# Altium integrated library ST Logic Counter.IntLib: 206 symbols (part 3 of 3)
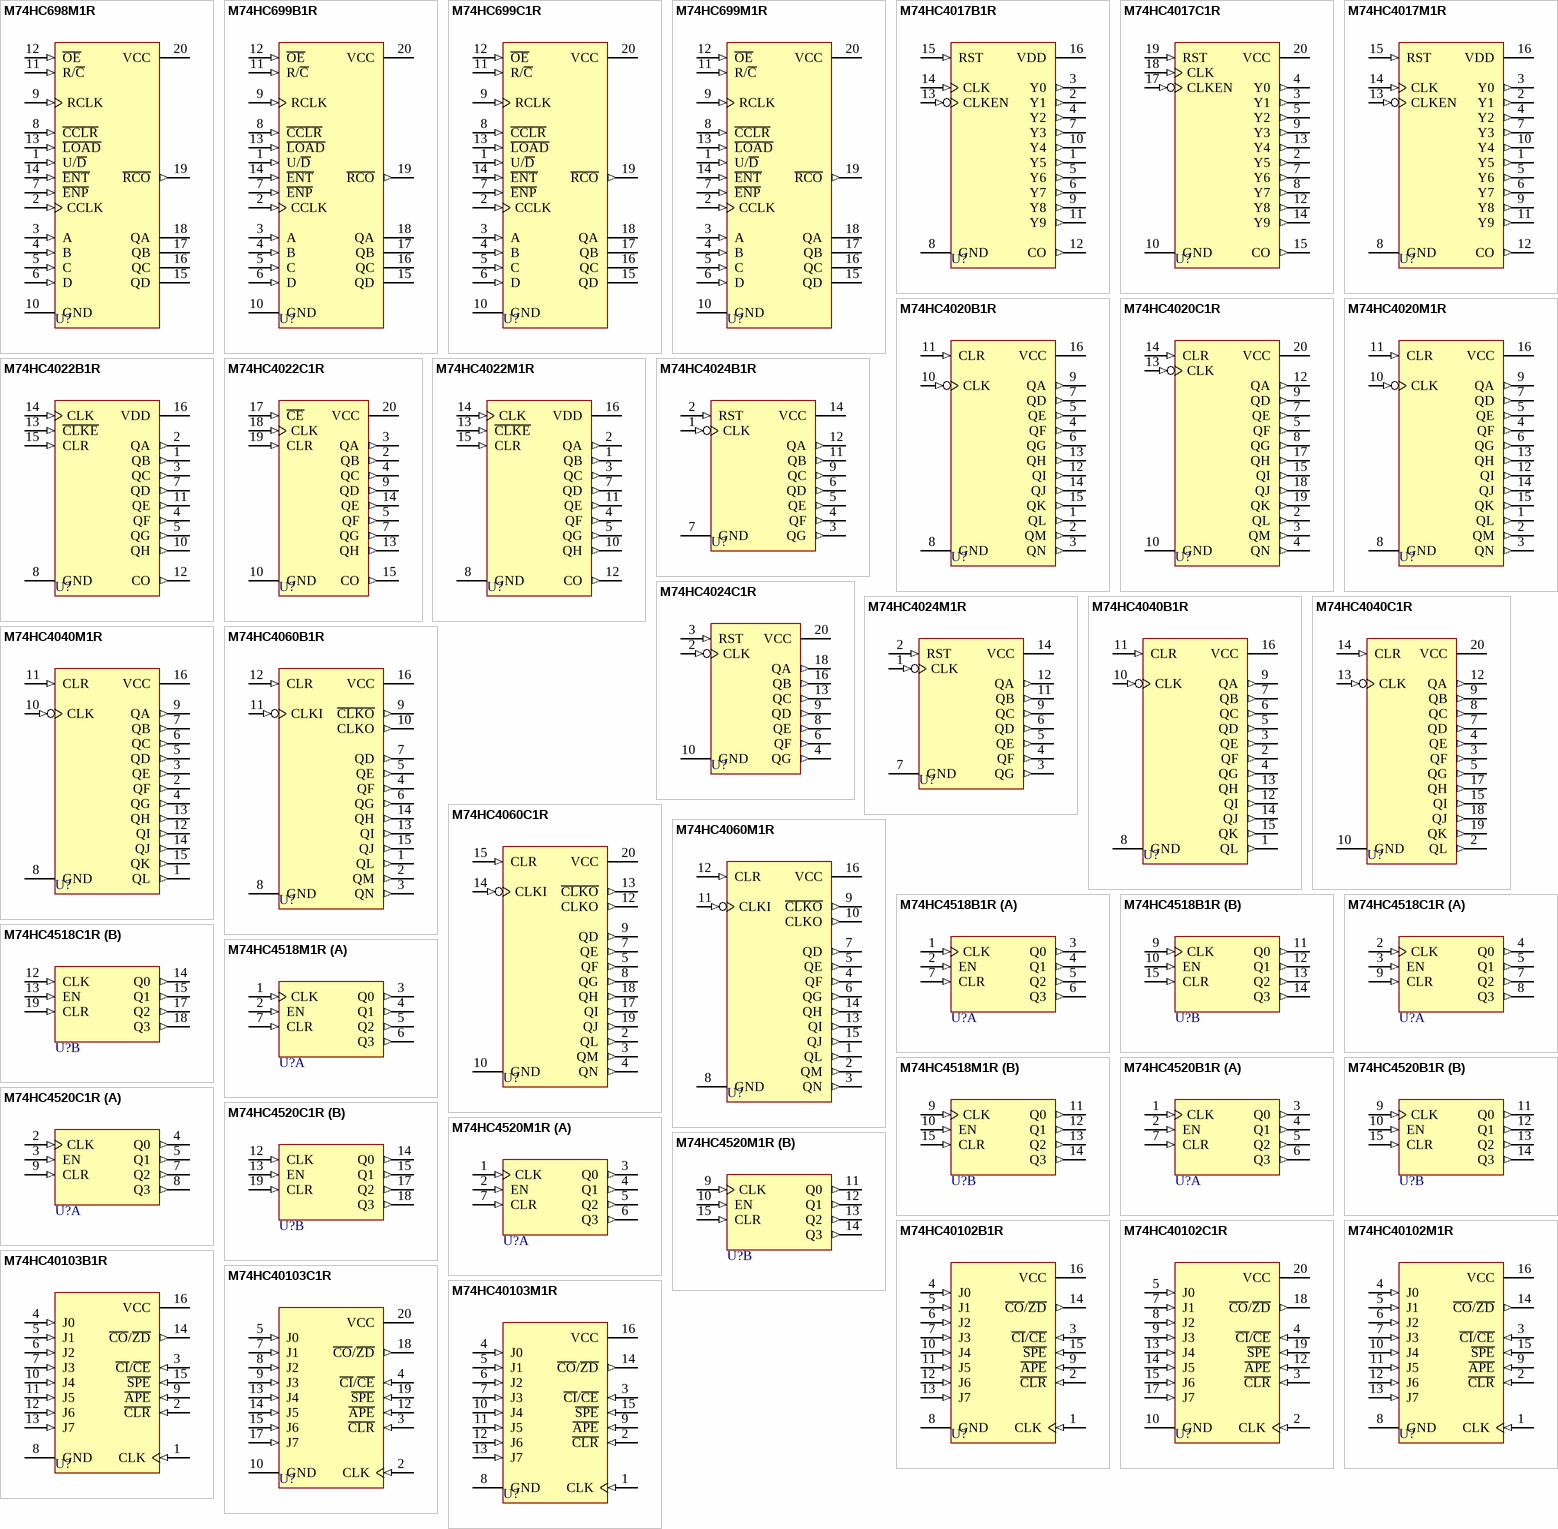
[diagram p8: symbols M74HC698M1R to M74HC40103M1R]

## M74HC699C1R
designator U?
U/D 4-Bit Binary Counter/Register (3-State); Published: 8-Jun-2000; LatestRevisionDate: 17-Jul-2002; LatestRevisionNote: Re-released for DXP Platform.; DatasheetDocument: Mar-1993; PackageDocument: Mar-1992; PackageReference: PLCC20; Publisher: Altium Limited
footprint PLCC20 (Leaded Chip Carrier; 20 Leads; Body 9 x 9 mm)
signal-integrity model M74HC699C1R
pins: 1 U/~{D} (in), 2 CCLK (in), 3 A (in), 4 B (in), 5 C (in), 6 D (in), 7 ~{ENP} (in), 8 ~{CCLR} (in), 9 RCLK (in), 10 GND (power), 11 R/~{C} (in), 12 ~{OE} (in), 13 ~{LOAD} (in), 14 ~{ENT} (in), 15 QD (hiz), 16 QC (hiz), 17 QB (hiz), 18 QA (hiz), 19 ~{RCO} (out), 20 VCC (power)

## M74HC699M1R
designator U?
U/D 4-Bit Binary Counter/Register (3-State); Published: 8-Jun-2000; LatestRevisionDate: 17-Jul-2002; LatestRevisionNote: Re-released for DXP Platform.; DatasheetDocument: Mar-1993; PackageDocument: Jul-2001; PackageReference: SO20; Publisher: Altium Limited; Code_JEDEC: MS-013-AC; Code_IPC: SO20W
footprint SO20 (Small Outline, Plastic; 20 Leads; Body Width 7.5 mm; Pitch 1.27 mm)
signal-integrity model M74HC699M1R
pins: 1 U/~{D} (in), 2 CCLK (in), 3 A (in), 4 B (in), 5 C (in), 6 D (in), 7 ~{ENP} (in), 8 ~{CCLR} (in), 9 RCLK (in), 10 GND (power), 11 R/~{C} (in), 12 ~{OE} (in), 13 ~{LOAD} (in), 14 ~{ENT} (in), 15 QD (hiz), 16 QC (hiz), 17 QB (hiz), 18 QA (hiz), 19 ~{RCO} (out), 20 VCC (power)

## M74HC4017B1R
designator U?
Decade Counter/Divider; Published: 8-Jun-2000; LatestRevisionDate: 17-Jul-2002; LatestRevisionNote: Re-released for DXP Platform.; DatasheetDocument: Oct-1992; PackageDocument: Apr-1996; PackageReference: DIP16; Publisher: Altium Limited
footprint DIP16 (DIP; 16 Leads; Row Spacing 7.62 mm; Pitch 2.54 mm)
signal-integrity model M74HC4017B1R
pins: 1 Y5 (out), 2 Y1 (out), 3 Y0 (out), 4 Y2 (out), 5 Y6 (out), 6 Y7 (out), 7 Y3 (out), 8 GND (power), 9 Y8 (out), 10 Y4 (out), 11 Y9 (out), 12 CO (out), 13 CLKEN (in), 14 CLK (in), 15 RST (in), 16 VDD (power)

## M74HC4017C1R
designator U?
Decade Counter/Divider; Note: Pins 1, 6, 11 and 16 are not connected and not drawn.; Published: 8-Jun-2000; LatestRevisionDate: 17-Jul-2002; LatestRevisionNote: Re-released for DXP Platform.; DatasheetDocument: Oct-1992; PackageDocument: Mar-1992; PackageReference: PLCC20; Publisher: Altium Limited
footprint PLCC20 (Leaded Chip Carrier; 20 Leads; Body 9 x 9 mm)
signal-integrity model M74HC4017C1R
pins: 2 Y5 (out), 3 Y1 (out), 4 Y0 (out), 5 Y2 (out), 7 Y6 (out), 8 Y7 (out), 9 Y3 (out), 10 GND (power), 12 Y8 (out), 13 Y4 (out), 14 Y9 (out), 15 CO (out), 17 CLKEN (in), 18 CLK (in), 19 RST (in), 20 VCC (power)

## M74HC4017M1R
designator U?
Decade Counter/Divider; Published: 8-Jun-2000; LatestRevisionDate: 17-Jul-2002; LatestRevisionNote: Re-released for DXP Platform.; DatasheetDocument: Oct-1992; PackageDocument: May-1998; PackageReference: SO16; Publisher: Altium Limited
footprint SO16 (Small Outline; 16 Leads; Body Width 3.9 mm; Pitch 1.27 mm)
signal-integrity model M74HC4017M1R
pins: 1 Y5 (out), 2 Y1 (out), 3 Y0 (out), 4 Y2 (out), 5 Y6 (out), 6 Y7 (out), 7 Y3 (out), 8 GND (power), 9 Y8 (out), 10 Y4 (out), 11 Y9 (out), 12 CO (out), 13 CLKEN (in), 14 CLK (in), 15 RST (in), 16 VDD (power)

## M74HC4020B1R
designator U?
14-Stage Binary Counter; Published: 8-Jun-2000; LatestRevisionDate: 17-Jul-2002; LatestRevisionNote: Re-released for DXP Platform.; DatasheetDocument: Mar-1993; PackageDocument: Apr-1996; PackageReference: DIP16; Publisher: Altium Limited
footprint DIP16 (DIP; 16 Leads; Row Spacing 7.62 mm; Pitch 2.54 mm)
signal-integrity model M74HC4020B1R
pins: 1 QL (out), 2 QM (out), 3 QN (out), 4 QF (out), 5 QE (out), 6 QG (out), 7 QD (out), 8 GND (power), 9 QA (out), 10 CLK (in), 11 CLR (in), 12 QI (out), 13 QH (out), 14 QJ (out), 15 QK (out), 16 VCC (power)

## M74HC4020C1R
designator U?
14-Stage Binary Counter; Note: Pins 1, 6, 11 and 16 are not connected and not drawn.; Published: 8-Jun-2000; LatestRevisionDate: 17-Jul-2002; LatestRevisionNote: Re-released for DXP Platform.; DatasheetDocument: Mar-1993; PackageDocument: Mar-1992; PackageReference: PLCC20; Publisher: Altium Limited
footprint PLCC20 (Leaded Chip Carrier; 20 Leads; Body 9 x 9 mm)
signal-integrity model M74HC4020C1R
pins: 2 QL (out), 3 QM (out), 4 QN (out), 5 QF (out), 7 QE (out), 8 QG (out), 9 QD (out), 10 GND (power), 12 QA (out), 13 CLK (in), 14 CLR (in), 15 QI (out), 17 QH (out), 18 QJ (out), 19 QK (out), 20 VCC (power)

## M74HC4020M1R
designator U?
14-Stage Binary Counter; Published: 8-Jun-2000; LatestRevisionDate: 17-Jul-2002; LatestRevisionNote: Re-released for DXP Platform.; DatasheetDocument: Mar-1993; PackageDocument: May-1998; PackageReference: SO16; Publisher: Altium Limited
footprint SO16 (Small Outline; 16 Leads; Body Width 3.9 mm; Pitch 1.27 mm)
signal-integrity model M74HC4020M1R
pins: 1 QL (out), 2 QM (out), 3 QN (out), 4 QF (out), 5 QE (out), 6 QG (out), 7 QD (out), 8 GND (power), 9 QA (out), 10 CLK (in), 11 CLR (in), 12 QI (out), 13 QH (out), 14 QJ (out), 15 QK (out), 16 VCC (power)

## M74HC4022B1R
designator U?
Octal Counter/Divider; Note: Pins 6 and 9 are not connected and not drawn.; Published: 8-Jun-2000; LatestRevisionDate: 17-Jul-2002; LatestRevisionNote: Re-released for DXP Platform.; DatasheetDocument: Oct-1992; PackageDocument: Apr-1996; PackageReference: DIP16; Publisher: Altium Limited
footprint DIP16 (DIP; 16 Leads; Row Spacing 7.62 mm; Pitch 2.54 mm)
signal-integrity model M74HC4022B1R
pins: 1 QB (out), 2 QA (out), 3 QC (out), 4 QF (out), 5 QG (out), 7 QD (out), 8 GND (power), 10 QH (out), 11 QE (out), 12 CO (out), 13 ~{CLKE} (in), 14 CLK (in), 15 CLR (in), 16 VDD (power)

## M74HC4022C1R
designator U?
Octal Counter/Divider; Note: Pins 1, 6, 8, 11, 12 and 16 are not connected and not drawn.; Published: 8-Jun-2000; LatestRevisionDate: 17-Jul-2002; LatestRevisionNote: Re-released for DXP Platform.; DatasheetDocument: Oct-1992; PackageDocument: Mar-1992; PackageReference: PLCC20; Publisher: Altium Limited
footprint PLCC20 (Leaded Chip Carrier; 20 Leads; Body 9 x 9 mm)
signal-integrity model M74HC4022C1R
pins: 2 QB (out), 3 QA (out), 4 QC (out), 5 QF (out), 7 QG (out), 9 QD (out), 10 GND (power), 13 QH (out), 14 QE (out), 15 CO (out), 17 ~{CE} (in), 18 CLK (in), 19 CLR (in), 20 VCC (power)

## M74HC4022M1R
designator U?
Octal Counter/Divider; Note: Pins 6 and 9 are not connected and not drawn.; Published: 8-Jun-2000; LatestRevisionDate: 17-Jul-2002; LatestRevisionNote: Re-released for DXP Platform.; DatasheetDocument: Oct-1992; PackageDocument: May-1998; PackageReference: SO16; Publisher: Altium Limited
footprint SO16 (Small Outline; 16 Leads; Body Width 3.9 mm; Pitch 1.27 mm)
signal-integrity model M74HC4022M1R
pins: 1 QB (out), 2 QA (out), 3 QC (out), 4 QF (out), 5 QG (out), 7 QD (out), 8 GND (power), 10 QH (out), 11 QE (out), 12 CO (out), 13 ~{CLKE} (in), 14 CLK (in), 15 CLR (in), 16 VDD (power)

## M74HC4024B1R
designator U?
7-Stage Binary Counter; Note: Pins 8, 10 and 13 are not connected and not drawn.; Published: 8-Jun-2000; LatestRevisionDate: 17-Jul-2002; LatestRevisionNote: Re-released for DXP Platform.; DatasheetDocument: Oct-1992; PackageDocument: Jan-1997; PackageReference: DIP14; Publisher: Altium Limited
footprint DIP14 (DIP; 14 Leads; Row Spacing 7.62 mm; Pitch 2.54 mm)
signal-integrity model M74HC4024B1R
pins: 1 CLK (in), 2 RST (in), 3 QG (out), 4 QF (out), 5 QE (out), 6 QD (out), 7 GND (power), 9 QC (out), 11 QB (out), 12 QA (out), 14 VCC (power)

## M74HC4024C1R
designator U?
7-Stage Binary Counter; Note: Pins 1, 5, 7, 11, 12, 14, 15, 17 and 19 are not connected and not drawn.; Published: 8-Jun-2000; LatestRevisionDate: 17-Jul-2002; LatestRevisionNote: Re-released for DXP Platform.; DatasheetDocument: Oct-1992; PackageDocument: Mar-1992; PackageReference: PLCC20; Publisher: Altium Limited
footprint PLCC20 (Leaded Chip Carrier; 20 Leads; Body 9 x 9 mm)
signal-integrity model M74HC4024C1R
pins: 2 CLK (in), 3 RST (in), 4 QG (out), 6 QF (out), 8 QE (out), 9 QD (out), 10 GND (power), 13 QC (out), 16 QB (out), 18 QA (out), 20 VCC (power)

## M74HC4024M1R
designator U?
7-Stage Binary Counter; Note: Pins 8, 10 and 13 are not connected and not drawn.; Published: 8-Jun-2000; LatestRevisionDate: 17-Jul-2002; LatestRevisionNote: Re-released for DXP Platform.; DatasheetDocument: Oct-1992; PackageDocument: Sep-1998; PackageReference: SO14; Publisher: Altium Limited
footprint SO14 (Small Outline; 14 Leads; Body Width 3.9 mm; Pitch 1.27 mm)
signal-integrity model M74HC4024M1R
pins: 1 CLK (in), 2 RST (in), 3 QG (out), 4 QF (out), 5 QE (out), 6 QD (out), 7 GND (power), 9 QC (out), 11 QB (out), 12 QA (out), 14 VCC (power)

## M74HC4040B1R
designator U?
12-Stage Binary Counter; Published: 8-Jun-2000; LatestRevisionDate: 17-Jul-2002; LatestRevisionNote: Re-released for DXP Platform.; DatasheetDocument: Mar-1993; PackageDocument: Apr-1996; PackageReference: DIP16; Publisher: Altium Limited
footprint DIP16 (DIP; 16 Leads; Row Spacing 7.62 mm; Pitch 2.54 mm)
signal-integrity model M74HC4040B1R
pins: 1 QL (out), 2 QF (out), 3 QE (out), 4 QG (out), 5 QD (out), 6 QC (out), 7 QB (out), 8 GND (power), 9 QA (out), 10 CLK (in), 11 CLR (in), 12 QI (out), 13 QH (out), 14 QJ (out), 15 QK (out), 16 VCC (power)

## M74HC4040C1R
designator U?
12-Stage Binary Counter; Note: Pins 1, 6, 11 and 16 are not connected and not drawn.; Published: 8-Jun-2000; LatestRevisionDate: 17-Jul-2002; LatestRevisionNote: Re-released for DXP Platform.; DatasheetDocument: Mar-1993; PackageDocument: Mar-1992; PackageReference: PLCC20; Publisher: Altium Limited
footprint PLCC20 (Leaded Chip Carrier; 20 Leads; Body 9 x 9 mm)
signal-integrity model M74HC4040C1R
pins: 2 QL (out), 3 QF (out), 4 QE (out), 5 QG (out), 7 QD (out), 8 QC (out), 9 QB (out), 10 GND (power), 12 QA (out), 13 CLK (in), 14 CLR (in), 15 QI (out), 17 QH (out), 18 QJ (out), 19 QK (out), 20 VCC (power)

## M74HC4040M1R
designator U?
12-Stage Binary Counter; Published: 8-Jun-2000; LatestRevisionDate: 17-Jul-2002; LatestRevisionNote: Re-released for DXP Platform.; DatasheetDocument: Mar-1993; PackageDocument: May-1998; PackageReference: SO16; Publisher: Altium Limited
footprint SO16 (Small Outline; 16 Leads; Body Width 3.9 mm; Pitch 1.27 mm)
signal-integrity model M74HC4040M1R
pins: 1 QL (out), 2 QF (out), 3 QE (out), 4 QG (out), 5 QD (out), 6 QC (out), 7 QB (out), 8 GND (power), 9 QA (out), 10 CLK (in), 11 CLR (in), 12 QI (out), 13 QH (out), 14 QJ (out), 15 QK (out), 16 VCC (power)

## M74HC4060B1R
designator U?
14-Stage Binary Counter/Oscillator; Published: 8-Jun-2000; LatestRevisionDate: 17-Jul-2002; LatestRevisionNote: Re-released for DXP Platform.; DatasheetDocument: Mar-1993; PackageDocument: Apr-1996; PackageReference: DIP16; Publisher: Altium Limited
footprint DIP16 (DIP; 16 Leads; Row Spacing 7.62 mm; Pitch 2.54 mm)
signal-integrity model M74HC4060B1R
pins: 1 QL (out), 2 QM (out), 3 QN (out), 4 QF (out), 5 QE (out), 6 QG (out), 7 QD (out), 8 GND (power), 9 ~{CLKO} (out), 10 CLKO (out), 11 CLKI (in), 12 CLR (in), 13 QI (out), 14 QH (out), 15 QJ (out), 16 VCC (power)

## M74HC4060C1R
designator U?
14-Stage Binary Counter/Oscillator; Note: Pins 1, 6, 11 and 16 are not connected and not drawn.; Published: 8-Jun-2000; LatestRevisionDate: 17-Jul-2002; LatestRevisionNote: Re-released for DXP Platform.; DatasheetDocument: Mar-1993; PackageDocument: Mar-1992; PackageReference: PLCC20; Publisher: Altium Limited
footprint PLCC20 (Leaded Chip Carrier; 20 Leads; Body 9 x 9 mm)
signal-integrity model M74HC4060C1R
pins: 2 QL (out), 3 QM (out), 4 QN (out), 5 QF (out), 7 QE (out), 8 QG (out), 9 QD (out), 10 GND (power), 12 CLKO (out), 13 ~{CLKO} (out), 14 CLKI (in), 15 CLR (in), 17 QI (out), 18 QH (out), 19 QJ (out), 20 VCC (power)

## M74HC4060M1R
designator U?
14-Stage Binary Counter/Oscillator; Published: 8-Jun-2000; LatestRevisionDate: 17-Jul-2002; LatestRevisionNote: Re-released for DXP Platform.; DatasheetDocument: Mar-1993; PackageDocument: May-1998; PackageReference: SO16; Publisher: Altium Limited
footprint SO16 (Small Outline; 16 Leads; Body Width 3.9 mm; Pitch 1.27 mm)
signal-integrity model M74HC4060M1R
pins: 1 QL (out), 2 QM (out), 3 QN (out), 4 QF (out), 5 QE (out), 6 QG (out), 7 QD (out), 8 GND (power), 9 ~{CLKO} (out), 10 CLKO (out), 11 CLKI (in), 12 CLR (in), 13 QI (out), 14 QH (out), 15 QJ (out), 16 VCC (power)

## M74HC4518B1R
designator U?
Dual Decade Counter; Published: 8-Jun-2000; LatestRevisionDate: 17-Jul-2002; LatestRevisionNote: Re-released for DXP Platform.; DatasheetDocument: Mar-1993; PackageDocument: Apr-1996; PackageReference: DIP16; Publisher: Altium Limited
footprint DIP16 (DIP; 16 Leads; Row Spacing 7.62 mm; Pitch 2.54 mm)
signal-integrity model M74HC4518B1R
pins on every part: 8 GND (power) hidden to GND, 16 VDD (power) hidden to VDD
part A pins: 1 CLK (in), 2 EN (in), 3 Q0 (out), 4 Q1 (out), 5 Q2 (out), 6 Q3 (out), 7 CLR (in)
part B pins: 9 CLK (in), 10 EN (in), 11 Q0 (out), 12 Q1 (out), 13 Q2 (out), 14 Q3 (out), 15 CLR (in)

## M74HC4518C1R
designator U?
Dual Decade Counter; Note: Pins 1, 6, 11 and 16 are not connected and not drawn.; Published: 8-Jun-2000; LatestRevisionDate: 17-Jul-2002; LatestRevisionNote: Re-released for DXP Platform.; DatasheetDocument: Mar-1993; PackageDocument: Mar-1992; PackageReference: PLCC20; Publisher: Altium Limited
footprint PLCC20 (Leaded Chip Carrier; 20 Leads; Body 9 x 9 mm)
signal-integrity model M74HC4518C1R
pins on every part: 10 GND (power) hidden to GND, 20 VCC (power) hidden to VCC
part A pins: 2 CLK (in), 3 EN (in), 4 Q0 (out), 5 Q1 (out), 7 Q2 (out), 8 Q3 (out), 9 CLR (in)
part B pins: 12 CLK (in), 13 EN (in), 14 Q0 (out), 15 Q1 (out), 17 Q2 (out), 18 Q3 (out), 19 CLR (in)

## M74HC4518M1R
designator U?
Dual Decade Counter; Published: 8-Jun-2000; LatestRevisionDate: 17-Jul-2002; LatestRevisionNote: Re-released for DXP Platform.; DatasheetDocument: Mar-1993; PackageDocument: May-1998; PackageReference: SO16; Publisher: Altium Limited
footprint SO16 (Small Outline; 16 Leads; Body Width 3.9 mm; Pitch 1.27 mm)
signal-integrity model M74HC4518M1R
pins on every part: 8 GND (power) hidden to GND, 16 VDD (power) hidden to VDD
part A pins: 1 CLK (in), 2 EN (in), 3 Q0 (out), 4 Q1 (out), 5 Q2 (out), 6 Q3 (out), 7 CLR (in)
part B pins: 9 CLK (in), 10 EN (in), 11 Q0 (out), 12 Q1 (out), 13 Q2 (out), 14 Q3 (out), 15 CLR (in)

## M74HC4520B1R
designator U?
Dual 4 Bit Binary Counter; Published: 8-Jun-2000; LatestRevisionDate: 17-Jul-2002; LatestRevisionNote: Re-released for DXP Platform.; DatasheetDocument: Mar-1993; PackageDocument: Apr-1996; PackageReference: DIP16; Publisher: Altium Limited
footprint DIP16 (DIP; 16 Leads; Row Spacing 7.62 mm; Pitch 2.54 mm)
signal-integrity model M74HC4520B1R
pins on every part: 8 GND (power) hidden to GND, 16 VDD (power) hidden to VDD
part A pins: 1 CLK (in), 2 EN (in), 3 Q0 (out), 4 Q1 (out), 5 Q2 (out), 6 Q3 (out), 7 CLR (in)
part B pins: 9 CLK (in), 10 EN (in), 11 Q0 (out), 12 Q1 (out), 13 Q2 (out), 14 Q3 (out), 15 CLR (in)

## M74HC4520C1R
designator U?
Dual 4 Bit Binary Counter; Note: Pins 1, 6, 11 and 16 are not connected and not drawn.; Published: 8-Jun-2000; LatestRevisionDate: 17-Jul-2002; LatestRevisionNote: Re-released for DXP Platform.; DatasheetDocument: Mar-1993; PackageDocument: Mar-1992; PackageReference: PLCC20; Publisher: Altium Limited
footprint PLCC20 (Leaded Chip Carrier; 20 Leads; Body 9 x 9 mm)
signal-integrity model M74HC4520C1R
pins on every part: 10 GND (power) hidden to GND, 20 VCC (power) hidden to VCC
part A pins: 2 CLK (in), 3 EN (in), 4 Q0 (out), 5 Q1 (out), 7 Q2 (out), 8 Q3 (out), 9 CLR (in)
part B pins: 12 CLK (in), 13 EN (in), 14 Q0 (out), 15 Q1 (out), 17 Q2 (out), 18 Q3 (out), 19 CLR (in)

## M74HC4520M1R
designator U?
Dual 4 Bit Binary Counter; Published: 8-Jun-2000; LatestRevisionDate: 17-Jul-2002; LatestRevisionNote: Re-released for DXP Platform.; DatasheetDocument: Mar-1993; PackageDocument: May-1998; PackageReference: SO16; Publisher: Altium Limited
footprint SO16 (Small Outline; 16 Leads; Body Width 3.9 mm; Pitch 1.27 mm)
signal-integrity model M74HC4520M1R
pins on every part: 8 GND (power) hidden to GND, 16 VDD (power) hidden to VDD
part A pins: 1 CLK (in), 2 EN (in), 3 Q0 (out), 4 Q1 (out), 5 Q2 (out), 6 Q3 (out), 7 CLR (in)
part B pins: 9 CLK (in), 10 EN (in), 11 Q0 (out), 12 Q1 (out), 13 Q2 (out), 14 Q3 (out), 15 CLR (in)

## M74HC40102B1R
designator U?
8-Stage Presettable Synchronous Down Counter; Published: 8-Jun-2000; LatestRevisionDate: 17-Jul-2002; LatestRevisionNote: Re-released for DXP Platform.; DatasheetDocument: Mar-1993; PackageDocument: Apr-1996; PackageReference: DIP16; Publisher: Altium Limited
footprint DIP16 (DIP; 16 Leads; Row Spacing 7.62 mm; Pitch 2.54 mm)
signal-integrity model M74HC40102B1R
pins: 1 CLK (in), 2 ~{CLR} (in), 3 ~{CI}/~{CE} (in), 4 J0 (in), 5 J1 (in), 6 J2 (in), 7 J3 (in), 8 GND (power), 9 ~{APE} (in), 10 J4 (in), 11 J5 (in), 12 J6 (in), 13 J7 (in), 14 ~{CO}/~{ZD} (out), 15 ~{SPE} (in), 16 VCC (power)

## M74HC40102C1R
designator U?
8-Stage Presettable Synchronous Down Counter; Note: Pins 1, 6, 11 and 16 are not connected and not drawn.; Published: 8-Jun-2000; LatestRevisionDate: 17-Jul-2002; LatestRevisionNote: Re-released for DXP Platform.; DatasheetDocument: Mar-1993; PackageDocument: Mar-1992; PackageReference: PLCC20; Publisher: Altium Limited
footprint PLCC20 (Leaded Chip Carrier; 20 Leads; Body 9 x 9 mm)
signal-integrity model M74HC40102C1R
pins: 2 CLK (in), 3 ~{CLR} (in), 4 ~{CI}/~{CE} (in), 5 J0 (in), 7 J1 (in), 8 J2 (in), 9 J3 (in), 10 GND (power), 12 ~{APE} (in), 13 J4 (in), 14 J5 (in), 15 J6 (in), 17 J7 (in), 18 ~{CO}/~{ZD} (out), 19 ~{SPE} (in), 20 VCC (power)

## M74HC40102M1R
designator U?
8-Stage Presettable Synchronous Down Counter; Published: 8-Jun-2000; LatestRevisionDate: 17-Jul-2002; LatestRevisionNote: Re-released for DXP Platform.; DatasheetDocument: Mar-1993; PackageDocument: May-1998; PackageReference: SO16; Publisher: Altium Limited
footprint SO16 (Small Outline; 16 Leads; Body Width 3.9 mm; Pitch 1.27 mm)
signal-integrity model M74HC40102M1R
pins: 1 CLK (in), 2 ~{CLR} (in), 3 ~{CI}/~{CE} (in), 4 J0 (in), 5 J1 (in), 6 J2 (in), 7 J3 (in), 8 GND (power), 9 ~{APE} (in), 10 J4 (in), 11 J5 (in), 12 J6 (in), 13 J7 (in), 14 ~{CO}/~{ZD} (out), 15 ~{SPE} (in), 16 VCC (power)

## M74HC40103B1R
designator U?
8-Stage Presettable Synchronous Down Counter; Published: 8-Jun-2000; LatestRevisionDate: 17-Jul-2002; LatestRevisionNote: Re-released for DXP Platform.; DatasheetDocument: Mar-1993; PackageDocument: Apr-1996; PackageReference: DIP16; Publisher: Altium Limited
footprint DIP16 (DIP; 16 Leads; Row Spacing 7.62 mm; Pitch 2.54 mm)
signal-integrity model M74HC40103B1R
pins: 1 CLK (in), 2 ~{CLR} (in), 3 ~{CI}/~{CE} (in), 4 J0 (in), 5 J1 (in), 6 J2 (in), 7 J3 (in), 8 GND (power), 9 ~{APE} (in), 10 J4 (in), 11 J5 (in), 12 J6 (in), 13 J7 (in), 14 ~{CO}/~{ZD} (out), 15 ~{SPE} (in), 16 VCC (power)

## M74HC40103C1R
designator U?
8-Stage Presettable Synchronous Down Counter; Note: Pins 1, 6, 11 and 16 are not connected and not drawn.; Published: 8-Jun-2000; LatestRevisionDate: 17-Jul-2002; LatestRevisionNote: Re-released for DXP Platform.; DatasheetDocument: Mar-1993; PackageDocument: Mar-1992; PackageReference: PLCC20; Publisher: Altium Limited
footprint PLCC20 (Leaded Chip Carrier; 20 Leads; Body 9 x 9 mm)
signal-integrity model M74HC40103C1R
pins: 2 CLK (in), 3 ~{CLR} (in), 4 ~{CI}/~{CE} (in), 5 J0 (in), 7 J1 (in), 8 J2 (in), 9 J3 (in), 10 GND (power), 12 ~{APE} (in), 13 J4 (in), 14 J5 (in), 15 J6 (in), 17 J7 (in), 18 ~{CO}/~{ZD} (out), 19 ~{SPE} (in), 20 VCC (power)

## M74HC40103M1R
designator U?
8-Stage Presettable Synchronous Down Counter; Published: 8-Jun-2000; LatestRevisionDate: 17-Jul-2002; LatestRevisionNote: Re-released for DXP Platform.; DatasheetDocument: Mar-1993; PackageDocument: May-1998; PackageReference: SO16; Publisher: Altium Limited
footprint SO16 (Small Outline; 16 Leads; Body Width 3.9 mm; Pitch 1.27 mm)
signal-integrity model M74HC40103M1R
pins: 1 CLK (in), 2 ~{CLR} (in), 3 ~{CI}/~{CE} (in), 4 J0 (in), 5 J1 (in), 6 J2 (in), 7 J3 (in), 8 GND (power), 9 ~{APE} (in), 10 J4 (in), 11 J5 (in), 12 J6 (in), 13 J7 (in), 14 ~{CO}/~{ZD} (out), 15 ~{SPE} (in), 16 VCC (power)

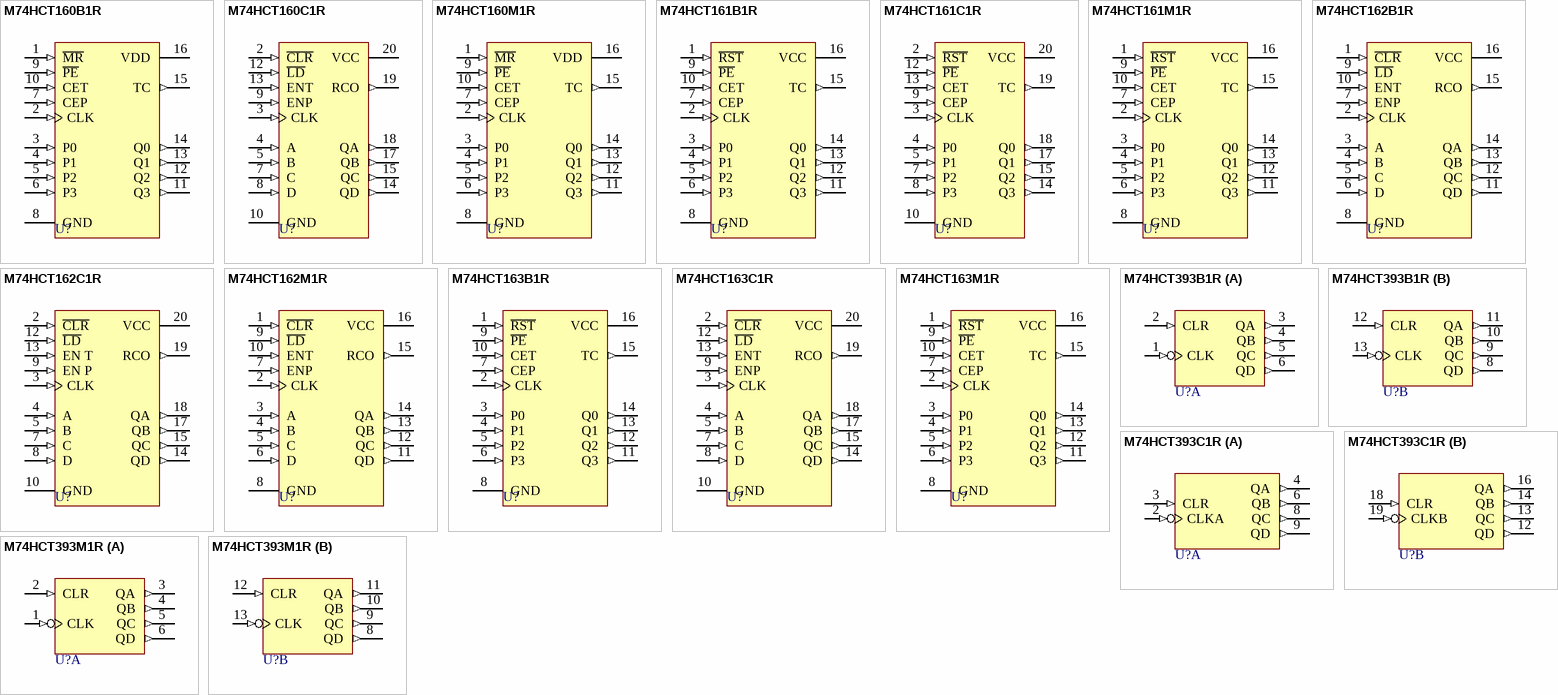
[diagram p6: symbols M74HCT160B1R to M74HCT393M1R]

## M74HCT160B1R
designator U?
Synchronous Presettable 4-Bit Counter; Published: 8-Jun-2000; LatestRevisionDate: 17-Jul-2002; LatestRevisionNote: Re-released for DXP Platform.; DatasheetDocument: Oct-1993; PackageDocument: Apr-1996; PackageReference: DIP16; Publisher: Altium Limited
footprint DIP16 (DIP; 16 Leads; Row Spacing 7.62 mm; Pitch 2.54 mm)
signal-integrity model M74HCT160B1R
pins: 1 ~{MR} (in), 2 CLK (in), 3 P0 (in), 4 P1 (in), 5 P2 (in), 6 P3 (in), 7 CEP (in), 8 GND (power), 9 ~{PE} (in), 10 CET (in), 11 Q3 (out), 12 Q2 (out), 13 Q1 (out), 14 Q0 (out), 15 TC (out), 16 VDD (power)

## M74HCT160C1R
designator U?
Synchronous Presettable 4-Bit Counter; Note: Pins 1, 6, 11 and 16 are not connected and not drawn.; Published: 8-Jun-2000; LatestRevisionDate: 17-Jul-2002; LatestRevisionNote: Re-released for DXP Platform.; DatasheetDocument: Oct-1993; PackageDocument: Mar-1992; PackageReference: PLCC20; Publisher: Altium Limited
footprint PLCC20 (Leaded Chip Carrier; 20 Leads; Body 9 x 9 mm)
signal-integrity model M74HCT160C1R
pins: 2 ~{CLR} (in), 3 CLK (in), 4 A (in), 5 B (in), 7 C (in), 8 D (in), 9 ENP (in), 10 GND (power), 12 ~{LD} (in), 13 ENT (in), 14 QD (out), 15 QC (out), 17 QB (out), 18 QA (out), 19 RCO (out), 20 VCC (power)

## M74HCT160M1R
designator U?
Synchronous Presettable 4-Bit Counter; Published: 8-Jun-2000; LatestRevisionDate: 17-Jul-2002; LatestRevisionNote: Re-released for DXP Platform.; DatasheetDocument: Oct-1993; PackageDocument: May-1998; PackageReference: SO16; Publisher: Altium Limited
footprint SO16 (Small Outline; 16 Leads; Body Width 3.9 mm; Pitch 1.27 mm)
signal-integrity model M74HCT160M1R
pins: 1 ~{MR} (in), 2 CLK (in), 3 P0 (in), 4 P1 (in), 5 P2 (in), 6 P3 (in), 7 CEP (in), 8 GND (power), 9 ~{PE} (in), 10 CET (in), 11 Q3 (out), 12 Q2 (out), 13 Q1 (out), 14 Q0 (out), 15 TC (out), 16 VDD (power)

## M74HCT161B1R
designator U?
Synchronous Presettable 4-Bit Counter; Published: 8-Jun-2000; LatestRevisionDate: 17-Jul-2002; LatestRevisionNote: Re-released for DXP Platform.; DatasheetDocument: Oct-1993; PackageDocument: Apr-1996; PackageReference: DIP16; Publisher: Altium Limited
footprint DIP16 (DIP; 16 Leads; Row Spacing 7.62 mm; Pitch 2.54 mm)
signal-integrity model M74HCT161B1R
pins: 1 ~{RST} (in), 2 CLK (in), 3 P0 (in), 4 P1 (in), 5 P2 (in), 6 P3 (in), 7 CEP (in), 8 GND (power), 9 ~{PE} (in), 10 CET (in), 11 Q3 (out), 12 Q2 (out), 13 Q1 (out), 14 Q0 (out), 15 TC (out), 16 VCC (power)

## M74HCT161C1R
designator U?
Synchronous Presettable 4-Bit Counter; Note: Pins 1, 6, 11 and 16 are not connected and not drawn.; Published: 8-Jun-2000; LatestRevisionDate: 17-Jul-2002; LatestRevisionNote: Re-released for DXP Platform.; DatasheetDocument: Oct-1993; PackageDocument: Mar-1992; PackageReference: PLCC20; Publisher: Altium Limited
footprint PLCC20 (Leaded Chip Carrier; 20 Leads; Body 9 x 9 mm)
signal-integrity model M74HCT161C1R
pins: 2 ~{RST} (in), 3 CLK (in), 4 P0 (in), 5 P1 (in), 7 P2 (in), 8 P3 (in), 9 CEP (in), 10 GND (power), 12 ~{PE} (in), 13 CET (in), 14 Q3 (out), 15 Q2 (out), 17 Q1 (out), 18 Q0 (out), 19 TC (out), 20 VCC (power)

## M74HCT161M1R
designator U?
Synchronous Presettable 4-Bit Counter; Published: 8-Jun-2000; LatestRevisionDate: 17-Jul-2002; LatestRevisionNote: Re-released for DXP Platform.; DatasheetDocument: Oct-1993; PackageDocument: May-1998; PackageReference: SO16; Publisher: Altium Limited
footprint SO16 (Small Outline; 16 Leads; Body Width 3.9 mm; Pitch 1.27 mm)
signal-integrity model M74HCT161M1R
pins: 1 ~{RST} (in), 2 CLK (in), 3 P0 (in), 4 P1 (in), 5 P2 (in), 6 P3 (in), 7 CEP (in), 8 GND (power), 9 ~{PE} (in), 10 CET (in), 11 Q3 (out), 12 Q2 (out), 13 Q1 (out), 14 Q0 (out), 15 TC (out), 16 VCC (power)

## M74HCT162B1R
designator U?
Synchronous Presettable 4-Bit Counter; Published: 8-Jun-2000; LatestRevisionDate: 17-Jul-2002; LatestRevisionNote: Re-released for DXP Platform.; DatasheetDocument: Oct-1993; PackageDocument: Apr-1996; PackageReference: DIP16; Publisher: Altium Limited
footprint DIP16 (DIP; 16 Leads; Row Spacing 7.62 mm; Pitch 2.54 mm)
signal-integrity model M74HCT162B1R
pins: 1 ~{CLR} (in), 2 CLK (in), 3 A (in), 4 B (in), 5 C (in), 6 D (in), 7 ENP (in), 8 GND (power), 9 ~{LD} (in), 10 ENT (in), 11 QD (out), 12 QC (out), 13 QB (out), 14 QA (out), 15 RCO (out), 16 VCC (power)

## M74HCT162C1R
designator U?
Synchronous Presettable 4-Bit Counter; Note: Pins 1, 6, 11 and 16 are not connected and not drawn.; Published: 8-Jun-2000; LatestRevisionDate: 17-Jul-2002; LatestRevisionNote: Re-released for DXP Platform.; DatasheetDocument: Oct-1993; PackageDocument: Mar-1992; PackageReference: PLCC20; Publisher: Altium Limited
footprint PLCC20 (Leaded Chip Carrier; 20 Leads; Body 9 x 9 mm)
signal-integrity model M74HCT162C1R
pins: 2 ~{CLR} (in), 3 CLK (in), 4 A (in), 5 B (in), 7 C (in), 8 D (in), 9 EN P (in), 10 GND (power), 12 ~{LD} (in), 13 EN T (in), 14 QD (out), 15 QC (out), 17 QB (out), 18 QA (out), 19 RCO (out), 20 VCC (power)

## M74HCT162M1R
designator U?
Synchronous Presettable 4-Bit Counter; Published: 8-Jun-2000; LatestRevisionDate: 17-Jul-2002; LatestRevisionNote: Re-released for DXP Platform.; DatasheetDocument: Oct-1993; PackageDocument: May-1998; PackageReference: SO16; Publisher: Altium Limited
footprint SO16 (Small Outline; 16 Leads; Body Width 3.9 mm; Pitch 1.27 mm)
signal-integrity model M74HCT162M1R
pins: 1 ~{CLR} (in), 2 CLK (in), 3 A (in), 4 B (in), 5 C (in), 6 D (in), 7 ENP (in), 8 GND (power), 9 ~{LD} (in), 10 ENT (in), 11 QD (out), 12 QC (out), 13 QB (out), 14 QA (out), 15 RCO (out), 16 VCC (power)

## M74HCT163B1R
designator U?
Synchronous Presettable 4-Bit Counter; Published: 8-Jun-2000; LatestRevisionDate: 17-Jul-2002; LatestRevisionNote: Re-released for DXP Platform.; DatasheetDocument: Oct-1993; PackageDocument: Apr-1996; PackageReference: DIP16; Publisher: Altium Limited
footprint DIP16 (DIP; 16 Leads; Row Spacing 7.62 mm; Pitch 2.54 mm)
signal-integrity model M74HCT163B1R
pins: 1 ~{RST} (in), 2 CLK (in), 3 P0 (in), 4 P1 (in), 5 P2 (in), 6 P3 (in), 7 CEP (in), 8 GND (power), 9 ~{PE} (in), 10 CET (in), 11 Q3 (out), 12 Q2 (out), 13 Q1 (out), 14 Q0 (out), 15 TC (out), 16 VCC (power)

## M74HCT163C1R
designator U?
Synchronous Presettable 4-Bit Counter; Note: Pins 1, 6, 11 and 16 are not connected and not drawn.; Published: 8-Jun-2000; LatestRevisionDate: 17-Jul-2002; LatestRevisionNote: Re-released for DXP Platform.; DatasheetDocument: Oct-1993; PackageDocument: Mar-1992; PackageReference: PLCC20; Publisher: Altium Limited
footprint PLCC20 (Leaded Chip Carrier; 20 Leads; Body 9 x 9 mm)
signal-integrity model M74HCT163C1R
pins: 2 ~{CLR} (in), 3 CLK (in), 4 A (in), 5 B (in), 7 C (in), 8 D (in), 9 ENP (in), 10 GND (power), 12 ~{LD} (in), 13 ENT (in), 14 QD (out), 15 QC (out), 17 QB (out), 18 QA (out), 19 RCO (out), 20 VCC (power)

## M74HCT163M1R
designator U?
Synchronous Presettable 4-Bit Counter; Published: 8-Jun-2000; LatestRevisionDate: 17-Jul-2002; LatestRevisionNote: Re-released for DXP Platform.; DatasheetDocument: Oct-1993; PackageDocument: May-1998; PackageReference: SO16; Publisher: Altium Limited
footprint SO16 (Small Outline; 16 Leads; Body Width 3.9 mm; Pitch 1.27 mm)
signal-integrity model M74HCT163M1R
pins: 1 ~{RST} (in), 2 CLK (in), 3 P0 (in), 4 P1 (in), 5 P2 (in), 6 P3 (in), 7 CEP (in), 8 GND (power), 9 ~{PE} (in), 10 CET (in), 11 Q3 (out), 12 Q2 (out), 13 Q1 (out), 14 Q0 (out), 15 TC (out), 16 VCC (power)

## M74HCT393B1R
designator U?
Dual Binary Counter; Published: 8-Jun-2000; LatestRevisionDate: 17-Jul-2002; LatestRevisionNote: Re-released for DXP Platform.; DatasheetDocument: Oct-1993; PackageDocument: Jan-1997; PackageReference: DIP14; Publisher: Altium Limited
footprint DIP14 (DIP; 14 Leads; Row Spacing 7.62 mm; Pitch 2.54 mm)
signal-integrity model M74HCT393B1R
pins on every part: 7 GND (power) hidden to GND, 14 VDD (power) hidden to VDD
part A pins: 1 CLK (in), 2 CLR (in), 3 QA (out), 4 QB (out), 5 QC (out), 6 QD (out)
part B pins: 8 QD (out), 9 QC (out), 10 QB (out), 11 QA (out), 12 CLR (in), 13 CLK (in)

## M74HCT393C1R
designator U?
Dual Binary Counter; Note: Pins 1, 5, 7, 11, 15 and 17 are not connected and not drawn.; Published: 8-Jun-2000; LatestRevisionDate: 17-Jul-2002; LatestRevisionNote: Re-released for DXP Platform.; DatasheetDocument: Oct-1993; PackageDocument: Mar-1992; PackageReference: PLCC20; Publisher: Altium Limited
footprint PLCC20 (Leaded Chip Carrier; 20 Leads; Body 9 x 9 mm)
signal-integrity model M74HCT393C1R
pins on every part: 10 GND (power) hidden to GND, 20 VCC (power) hidden to VCC
part A pins: 2 CLKA (in), 3 CLR (in), 4 QA (out), 6 QB (out), 8 QC (out), 9 QD (out)
part B pins: 12 QD (out), 13 QC (out), 14 QB (out), 16 QA (out), 18 CLR (in), 19 CLKB (in)

## M74HCT393M1R
designator U?
Dual Binary Counter; Published: 8-Jun-2000; LatestRevisionDate: 17-Jul-2002; LatestRevisionNote: Re-released for DXP Platform.; DatasheetDocument: Oct-1993; PackageDocument: Sep-1998; PackageReference: SO14; Publisher: Altium Limited
footprint SO14 (Small Outline; 14 Leads; Body Width 3.9 mm; Pitch 1.27 mm)
signal-integrity model M74HCT393M1R
pins on every part: 7 GND (power) hidden to GND, 14 VDD (power) hidden to VDD
part A pins: 1 CLK (in), 2 CLR (in), 3 QA (out), 4 QB (out), 5 QC (out), 6 QD (out)
part B pins: 8 QD (out), 9 QC (out), 10 QB (out), 11 QA (out), 12 CLR (in), 13 CLK (in)